# Altium footprint library Everest_WQFN_20_EP.PcbLib: 1 footprints
Each footprint in its own frame and in the unit in brackets; x right, y up, seen from the top. Pads: shape width x height; smd on the part's side, far side on the other; paste and mask are expansions set on the pad; w line width, h text height; cw(c..) or ccw(c..) is an arc to the next point about the centre after c.
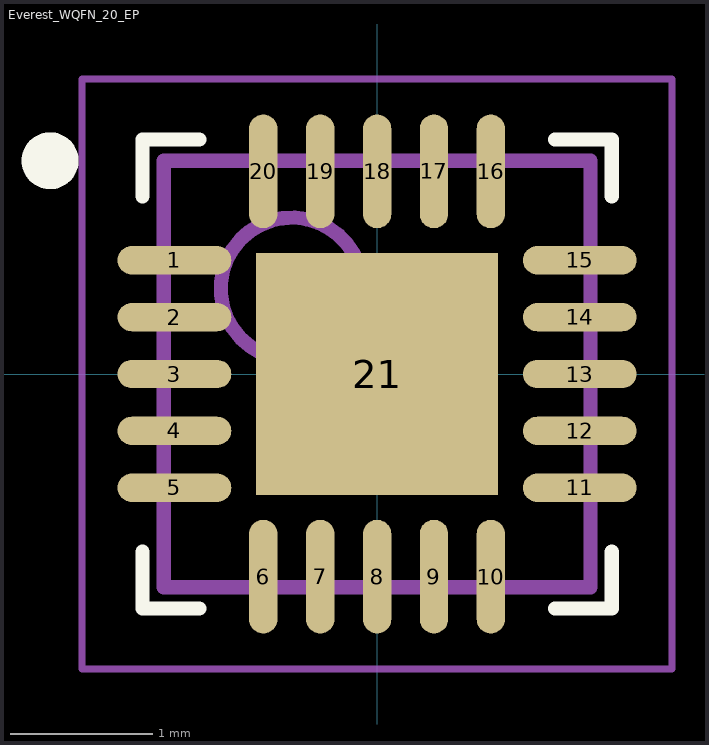
[diagram p0: the footprint, top view; thin cyan lines are the x and y axes]

## Everest_WQFN_20_EP [mm]
pads (21):
  oval 0.8x0.2 smd mask+0.05: 1(-1.425,0.8) 2(-1.425,0.4) 3(-1.425,0) 4(-1.425,-0.4) 5(-1.425,-0.8) 11(1.425,-0.8) 12(1.425,-0.4) 13(1.425,0) 14(1.425,0.4) 15(1.425,0.8)
  oval 0.2x0.8 smd mask+0.05: 6(-0.8,-1.425) 7(-0.4,-1.425) 8(0,-1.425) 9(0.4,-1.425) 10(0.8,-1.425) 16(0.8,1.425) 17(0.4,1.425) 18(0,1.425) 19(-0.4,1.425) 20(-0.8,1.425)
  rect 1.7x1.7 smd mask+0.05: 21(0,0)
Top Overlay:
  circle w0.2: c-2.3,1.5 r0.1
  lines w0.1: -1.65,-1.25 -1.65,-1.65 -1.25,-1.65 ; -1.65,1.25 -1.65,1.65 -1.25,1.65 ; 1.25,-1.65 1.65,-1.65 1.65,-1.25 ; 1.25,1.65 1.65,1.65 1.65,1.25
Top 3D Body:
  circle w0.1: c-0.6,0.6 r0.5
  lines w0.1: -1.5,-1.5 1.5,-1.5 1.5,1.5 -1.5,1.5 -1.5,-1.5
Top Courtyard:
  lines w0.05: -2.075,-2.075 2.075,-2.075 2.075,2.075 -2.075,2.075 -2.075,-2.075
  lines w0.1: -0.5,0 0.5,0 ; 0,-0.5 0,0.5
3D body "QFN40P300X300X60_HS-21N.step": height 0.6, standoff 0, extent -1.55,-1.55 1.55,1.55